# Altium integrated library TI Crystal Oscillator.IntLib: 5 symbols
Pins are listed as number, name and electrical type; pins without a type are passive.

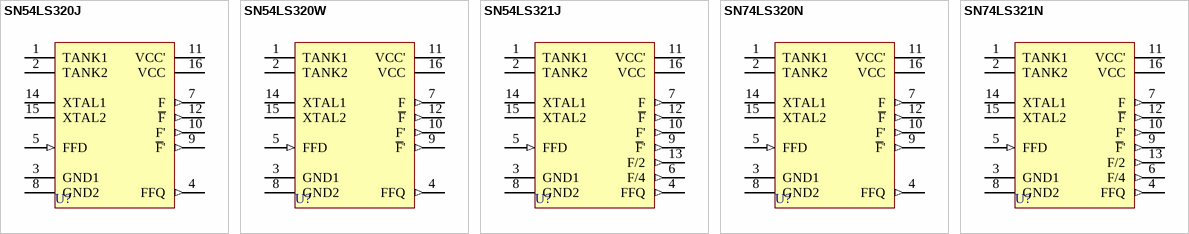
[diagram p0: symbols SN54LS320J to SN74LS321N]

## SN54LS320J
designator U?
Crystal-Controlled Oscillator; Note: Pins 6 are 13 are NC (not internally connected) pins.; Published: 8-Jun-2000; LatestRevisionDate: 04-Mar-2005; LatestRevisionNote: Stylized 3D Model Added.; DatasheetVersion: Mar-1988; PackageVersion: Jun-1999; PackageReference: J016C; Publisher: Altium Limited; PackageDescription: DIP; 16 Leads; Row Spacing 7.62 mm; Pitch 2.54 mm; ComponentLink1Description: Manufacturer Link; ComponentLink1URL: http://www.ti.com/; ComponentLink2Description: Datasheet; ComponentLink2URL: http://www-s.ti.com/sc/ds/sn74ls320.pdf
footprint J016C (DIP; 16 Leads; Row Spacing 7.62 mm; Pitch 2.54 mm)
3D model J016C (DIP; 16 Leads; Row Spacing 7.62 mm; Pitch 2.54 mm)
signal-integrity model SN54LS320J
pins: 1 TANK1, 2 TANK2, 3 GND1 (power), 4 FFQ (out), 5 FFD (in), 7 F (out), 8 GND2 (power), 9 ~{F}' (out), 10 F' (out), 11 VCC' (power), 12 ~{F} (out), 14 XTAL1, 15 XTAL2, 16 VCC (power)

## SN54LS320W
designator U?
Crystal-Controlled Oscillator; Note: Pins 6 are 13 are NC (not internally connected) pins.; Published: 8-Jun-2000; LatestRevisionDate: 04-Mar-2005; LatestRevisionNote: Stylized 3D Model Added.; DatasheetVersion: Mar-1988; PackageVersion: Jan-1995; PackageReference: W016; Publisher: Altium Limited; PackageDescription: DFP; 16 Leads; Body 10.9 x 7.2 mm (LxW max); Pitch 1.27 mm; Code_JEDEC: MO-092-AC; ComponentLink1Description: Manufacturer Link; ComponentLink1URL: http://www.ti.com/; ComponentLink2Description: Datasheet; ComponentLink2URL: http://www-s.ti.com/sc/ds/sn74ls320.pdf
footprint W016 (DFP; 16 Leads; Body 10.9 x 7.2 mm (LxW max); Pitch 1.27 mm)
3D model W016 (DFP; 16 Leads; Body 10.9 x 7.2 mm (LxW max); Pitch 1.27 mm)
signal-integrity model SN54LS320W
pins: 1 TANK1, 2 TANK2, 3 GND1 (power), 4 FFQ (out), 5 FFD (in), 7 F (out), 8 GND2 (power), 9 ~{F}' (out), 10 F' (out), 11 VCC' (power), 12 ~{F} (out), 14 XTAL1, 15 XTAL2, 16 VCC (power)

## SN54LS321J
designator U?
Crystal-Controlled Oscillator; Published: 8-Jun-2000; LatestRevisionDate: 04-Mar-2005; LatestRevisionNote: Stylized 3D Model Added.; DatasheetVersion: Mar-1988; PackageVersion: Jun-1999; PackageReference: J016C; Publisher: Altium Limited; PackageDescription: DIP; 16 Leads; Row Spacing 7.62 mm; Pitch 2.54 mm; ComponentLink1Description: Manufacturer Link; ComponentLink1URL: http://www.ti.com/; ComponentLink2Description: Datasheet; ComponentLink2URL: http://www-s.ti.com/sc/ds/sn74ls320.pdf
footprint J016C (DIP; 16 Leads; Row Spacing 7.62 mm; Pitch 2.54 mm)
3D model J016C (DIP; 16 Leads; Row Spacing 7.62 mm; Pitch 2.54 mm)
signal-integrity model SN54LS321J
pins: 1 TANK1, 2 TANK2, 3 GND1 (power), 4 FFQ (out), 5 FFD (in), 6 F/4 (out), 7 F (out), 8 GND2 (power), 9 ~{F}' (out), 10 F' (out), 11 VCC' (power), 12 ~{F} (out), 13 F/2 (out), 14 XTAL1, 15 XTAL2, 16 VCC (power)

## SN74LS320N
designator U?
Crystal-Controlled Oscillator; Note: Pins 6 are 13 are NC (not internally connected) pins.; ComponentAvailability: Obsolete; Published: 8-Jun-2000; LatestRevisionDate: 04-Mar-2005; LatestRevisionNote: Stylized 3D Model Added.; DatasheetVersion: Mar-1988; PackageVersion: Oct-1995; PackageReference: N016C; Publisher: Altium Limited; PackageDescription: DIP; 16 Leads; Row Spacing 7.62 mm; Pitch 2.54 mm; Code_JEDEC: MS-001-BB; ComponentLink1Description: Manufacturer Link; ComponentLink1URL: http://www.ti.com/; ComponentLink2Description: Datasheet; ComponentLink2URL: http://www-s.ti.com/sc/ds/sn74ls320.pdf
footprint N016C (DIP; 16 Leads; Row Spacing 7.62 mm; Pitch 2.54 mm)
3D model N016C (DIP; 16 Leads; Row Spacing 7.62 mm; Pitch 2.54 mm)
signal-integrity model SN74LS320N
pins: 1 TANK1, 2 TANK2, 3 GND1 (power), 4 FFQ (out), 5 FFD (in), 7 F (out), 8 GND2 (power), 9 ~{F}' (out), 10 F' (out), 11 VCC' (power), 12 ~{F} (out), 14 XTAL1, 15 XTAL2, 16 VCC (power)

## SN74LS321N
designator U?
Crystal-Controlled Oscillator; Published: 8-Jun-2000; LatestRevisionDate: 04-Mar-2005; LatestRevisionNote: Stylized 3D Model Added.; DatasheetVersion: Mar-1988; PackageVersion: Oct-1995; PackageReference: N016C; Publisher: Altium Limited; PackageDescription: DIP; 16 Leads; Row Spacing 7.62 mm; Pitch 2.54 mm; Code_JEDEC: MS-001-BB; ComponentLink1Description: Manufacturer Link; ComponentLink1URL: http://www.ti.com/; ComponentLink2Description: Datasheet; ComponentLink2URL: http://www-s.ti.com/sc/ds/sn74ls320.pdf
footprint N016C (DIP; 16 Leads; Row Spacing 7.62 mm; Pitch 2.54 mm)
3D model N016C (DIP; 16 Leads; Row Spacing 7.62 mm; Pitch 2.54 mm)
signal-integrity model SN74LS321N
pins: 1 TANK1, 2 TANK2, 3 GND1 (power), 4 FFQ (out), 5 FFD (in), 6 F/4 (out), 7 F (out), 8 GND2 (power), 9 ~{F}' (out), 10 F' (out), 11 VCC' (power), 12 ~{F} (out), 13 F/2 (out), 14 XTAL1, 15 XTAL2, 16 VCC (power)